# EAGLE library part AS3080 (library wb-ota)
http://www.alfarzpp.lv/eng/sc/AS3080E.pdf
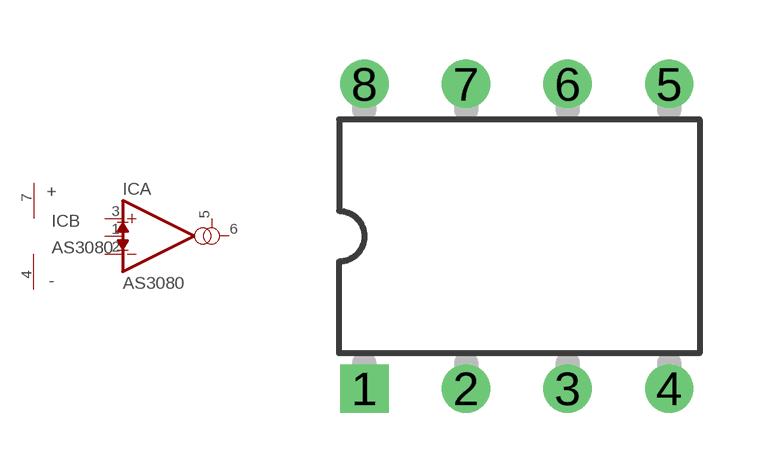
[diagram p2: symbol with the pads of DIL08; footprint DIL08]

Designator prefix IC; gates A=TYP-OTA.DBI B=TYP-PWR

## AS3080D  [DIL08]
1  A:D-BIAS  in
2  A:INVERTING(-)  in
3  A:NON-INVERTING(+)  in
4  B:V-  pwr
5  A:I-BIAS  in
6  A:OUT  out
7  B:V+  pwr

## Footprint DIL08 (pad centres in mm)
drill 0.7 square: 1 -3.81,-3.81
drill 0.7: 2 -1.27,-3.81; 3 1.27,-3.81; 4 3.81,-3.81; 5 3.81,3.81; 6 1.27,3.81; 7 -1.27,3.81; 8 -3.81,3.81